# Altium schematic symbol library OPTO_2CHAN.SchLib: 1 symbol
Pins are listed as number, name and electrical type; pins without a type are passive.

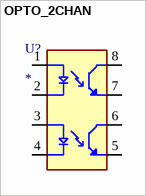
[diagram p0: symbol OPTO_2CHAN]

## OPTO_2CHAN
designator U?
Value: *
pins: 1 A1, 2 C1, 3 A2, 4 C2, 5 ET2, 6 CT2, 7 ET1, 8 CT1